# Altium schematic symbol library 通讯系列IC.SchLib: 22 symbols
Pins are listed as number, name and electrical type; pins without a type are passive.

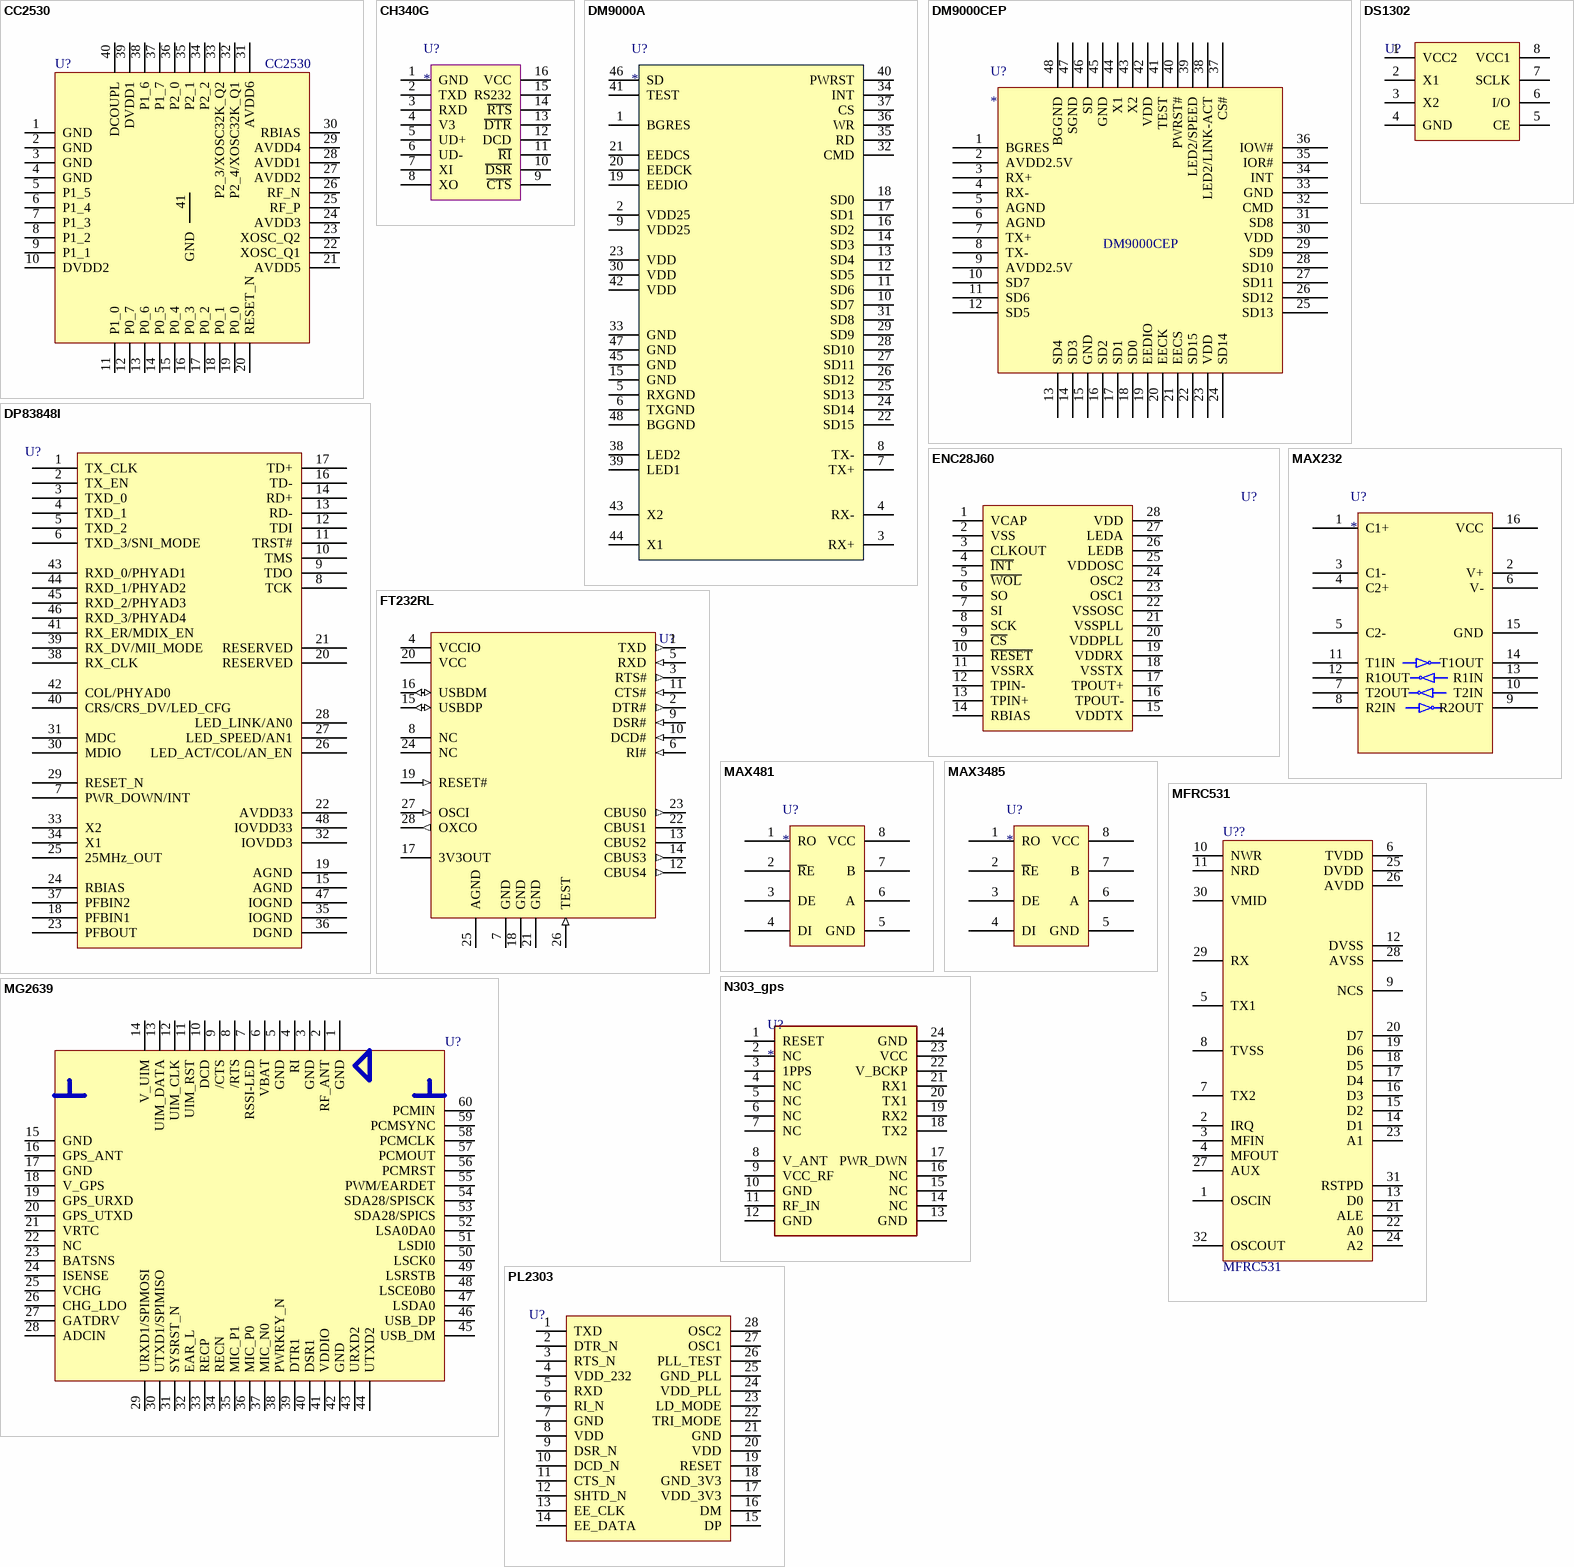
[diagram p0: symbols CC2530 to PL2303]

## CC2530
designator U?
footprint QFN40 6X6
pins: 1 GND, 2 GND, 3 GND, 4 GND, 5 P1_5, 6 P1_4, 7 P1_3, 8 P1_2, 9 P1_1, 10 DVDD2, 11 P1_0, 12 P0_7, 13 P0_6, 14 P0_5, 15 P0_4, 16 P0_3, 17 P0_2, 18 P0_1, 19 P0_0, 20 RESET_N, 21 AVDD5, 22 XOSC_Q1, 23 XOSC_Q2, 24 AVDD3, 25 RF_P, 26 RF_N, 27 AVDD2, 28 AVDD1, 29 AVDD4, 30 RBIAS, 31 AVDD6, 32 P2_4/XOSC32K_Q1, 33 P2_3/XOSC32K_Q2, 34 P2_2, 35 P2_1, 36 P2_0, 37 P1_7, 38 P1_6, 39 DVDD1, 40 DCOUPL, 41 GND

## CH340G
designator U?
footprint SOP16
pins: 1 GND, 2 TXD, 3 RXD, 4 V3, 5 UD+, 6 UD-, 7 XI, 8 XO, 9 ~{CTS}, 10 ~{DSR}, 11 ~{RI}, 12 DCD, 13 ~{DTR}, 14 ~{RTS}, 15 RS232, 16 VCC

## DM9000A
designator U?
footprint LQFP48
pins: 1 BGRES, 2 VDD25, 3 RX+, 4 RX-, 5 RXGND, 6 TXGND, 7 TX+, 8 TX-, 9 VDD25, 10 SD7, 11 SD6, 12 SD5, 13 SD4, 14 SD3, 15 GND, 16 SD2, 17 SD1, 18 SD0, 19 EEDIO, 20 EEDCK, 21 EEDCS, 22 SD15, 23 VDD, 24 SD14, 25 SD13, 26 SD12, 27 SD11, 28 SD10, 29 SD9, 30 VDD, 31 SD8, 32 CMD, 33 GND, 34 INT, 35 RD, 36 WR, 37 CS, 38 LED2, 39 LED1, 40 PWRST, 41 TEST, 42 VDD, 43 X2, 44 X1, 45 GND, 46 SD, 47 GND, 48 BGGND

## DM9000CEP
designator U?
footprint LQFP48
pins: 1 BGRES, 2 AVDD2.5V, 3 RX+, 4 RX-, 5 AGND, 6 AGND, 7 TX+, 8 TX-, 9 AVDD2.5V, 10 SD7, 11 SD6, 12 SD5, 13 SD4, 14 SD3, 15 GND, 16 SD2, 17 SD1, 18 SD0, 19 EEDIO, 20 EECK, 21 EECS, 22 SD15, 23 VDD, 24 SD14, 25 SD13, 26 SD12, 27 SD11, 28 SD10, 29 SD9, 30 VDD, 31 SD8, 32 CMD, 33 GND, 34 INT, 35 IOR#, 36 IOW#, 37 CS#, 38 LED2/LINK-ACT, 39 LED2/SPEED, 40 PWRST#, 41 TEST, 42 VDD, 43 X2, 44 X1, 45 GND, 46 SD, 47 SGND, 48 BGGND

## DP83848I
designator U?
网络芯片
footprint LQFP48
pins: 1 TX_CLK, 2 TX_EN, 3 TXD_0, 4 TXD_1, 5 TXD_2, 6 TXD_3/SNI_MODE, 7 PWR_DOWN/INT, 8 TCK, 9 TDO, 10 TMS, 11 TRST#, 12 TDI, 13 RD-, 14 RD+, 15 AGND, 16 TD-, 17 TD+, 18 PFBIN1, 19 AGND, 20 RESERVED, 21 RESERVED, 22 AVDD33, 23 PFBOUT, 24 RBIAS, 25 25MHz_OUT, 26 LED_ACT/COL/AN_EN, 27 LED_SPEED/AN1, 28 LED_LINK/AN0, 29 RESET_N, 30 MDIO, 31 MDC, 32 IOVDD3, 33 X2, 34 X1, 35 IOGND, 36 DGND, 37 PFBIN2, 38 RX_CLK, 39 RX_DV/MII_MODE, 40 CRS/CRS_DV/LED_CFG, 41 RX_ER/MDIX_EN, 42 COL/PHYAD0, 43 RXD_0/PHYAD1, 44 RXD_1/PHYAD2, 45 RXD_2/PHYAD3, 46 RXD_3/PHYAD4, 47 IOGND, 48 IOVDD33

## DS1302
designator U?
footprint DIP8
footprint DIP8_SS (DIP8-SMD Socket)
footprint SOP8
pins: 1 VCC2, 2 X1, 3 X2, 4 GND, 5 CE, 6 I/O, 7 SCLK, 8 VCC1

## ENC28J60
designator U?
以太网控制芯片
footprint QFN32 5x5
pins: 1 VCAP, 2 VSS, 3 CLKOUT, 4 ~{INT}, 5 ~{WOL}, 6 SO, 7 SI, 8 SCK, 9 ~{CS}, 10 ~{RESET}, 11 VSSRX, 12 TPIN-, 13 TPIN+, 14 RBIAS, 15 VDDTX, 16 TPOUT-, 17 TPOUT+, 18 VSSTX, 19 VDDRX, 20 VDDPLL, 21 VSSPLL, 22 VSSOSC, 23 OSC1, 24 OSC2, 25 VDDOSC, 26 LEDB, 27 LEDA, 28 VDD

## FT232RL
designator U?
footprint QFN32 5x5
footprint SSOP28
pins: 1 TXD (out), 2 DTR# (out), 3 RTS# (out), 4 VCCIO (power), 5 RXD (in), 6 RI# (in), 7 GND (power), 8 NC, 9 DSR# (in), 10 DCD# (in), 11 CTS# (in), 12 CBUS4 (out), 13 CBUS2 (oc), 14 CBUS3 (out), 15 USBDP (io), 16 USBDM (io), 17 3V3OUT (power), 18 GND (power), 19 RESET# (in), 20 VCC (power), 21 GND (power), 22 CBUS1 (oc), 23 CBUS0 (out), 24 NC, 25 AGND (power), 26 TEST (in), 27 OSCI (in), 28 OXCO (out)

## MAX232
designator U?
footprint SOP16
footprint DIP16
footprint DIP16_SS (DIP16-SMD Socket)
pins: 1 C1+, 2 V+, 3 C1-, 4 C2+, 5 C2-, 6 V-, 7 T2OUT, 8 R2IN, 9 R2OUT, 10 T2IN, 11 T1IN, 12 R1OUT, 13 R1IN, 14 T1OUT, 15 GND, 16 VCC

## MAX481
designator U?
footprint DIP8
footprint DIP8_SS (DIP8-SMD Socket)
footprint SOP8
pins: 1 RO, 2 ~{R}E, 3 DE, 4 DI, 5 GND, 6 A, 7 B, 8 VCC

## MAX3485
designator U?
footprint DIP8
footprint DIP8_SS (DIP8-SMD Socket)
footprint SOP8
pins: 1 RO, 2 ~{R}E, 3 DE, 4 DI, 5 GND, 6 A, 7 B, 8 VCC

## MFRC531
designator U??
footprint QFN32 5x5
pins: 1 OSCIN, 2 IRQ, 3 MFIN, 4 MFOUT, 5 TX1, 6 TVDD, 7 TX2, 8 TVSS, 9 NCS, 10 NWR, 11 NRD, 12 DVSS, 13 D0, 14 D1, 15 D2, 16 D3, 17 D4, 18 D5, 19 D6, 20 D7, 21 ALE, 22 A0, 23 A1, 24 A2, 25 DVDD, 26 AVDD, 27 AUX, 28 AVSS, 29 RX, 30 VMID, 31 RSTPD, 32 OSCOUT

## MG2639
designator U?
footprint MG2639
pins: 1 GND, 2 RF_ANT, 3 GND, 4 RI, 5 GND, 6 VBAT, 7 RSSI-LED, 8 /RTS, 9 /CTS, 10 DCD, 11 UIM_RST, 12 UIM_CLK, 13 UIM_DATA, 14 V_UIM, 15 GND, 16 GPS_ANT, 17 GND, 18 V_GPS, 19 GPS_URXD, 20 GPS_UTXD, 21 VRTC, 22 NC, 23 BATSNS, 24 ISENSE, 25 VCHG, 26 CHG_LDO, 27 GATDRV, 28 ADCIN, 29 URXD1/SPIMOSI, 30 UTXD1/SPIMISO, 31 SYSRST_N, 32 EAR_L, 33 RECP, 34 RECN, 35 MIC_P1, 36 MIC_P0, 37 MIC_N0, 38 PWRKEY_N, 39 DTR1, 40 DSR1, 41 VDDIO, 42 GND, 43 URXD2, 44 UTXD2, 45 USB_DM, 46 USB_DP, 47 LSDA0, 48 LSCE0B0, 49 LSRSTB, 50 LSCK0, 51 LSDI0, 52 LSA0DA0, 53 SDA28/SPICS, 54 SDA28/SPISCK, 55 PWM/EARDET, 56 PCMRST, 57 PCMOUT, 58 PCMCLK, 59 PCMSYNC, 60 PCMIN

## N303_gps
designator U?
footprint N303_gps
pins: 1 RESET, 2 NC, 3 1PPS, 4 NC, 5 NC, 6 NC, 7 NC, 8 V_ANT, 9 VCC_RF, 10 GND, 11 RF_IN, 12 GND, 13 GND, 14 NC, 15 NC, 16 NC, 17 PWR_DWN, 18 TX2, 19 RX2, 20 TX1, 21 RX1, 22 V_BCKP, 23 VCC, 24 GND

## PL2303
designator U?
footprint SOP28
pins: 1 TXD, 2 DTR_N, 3 RTS_N, 4 VDD_232, 5 RXD, 6 RI_N, 7 GND, 8 VDD, 9 DSR_N, 10 DCD_N, 11 CTS_N, 12 SHTD_N, 13 EE_CLK, 14 EE_DATA, 15 DP, 16 DM, 17 VDD_3V3, 18 GND_3V3, 19 RESET, 20 VDD, 21 GND, 22 TRI_MODE, 23 LD_MODE, 24 VDD_PLL, 25 GND_PLL, 26 PLL_TEST, 27 OSC1, 28 OSC2

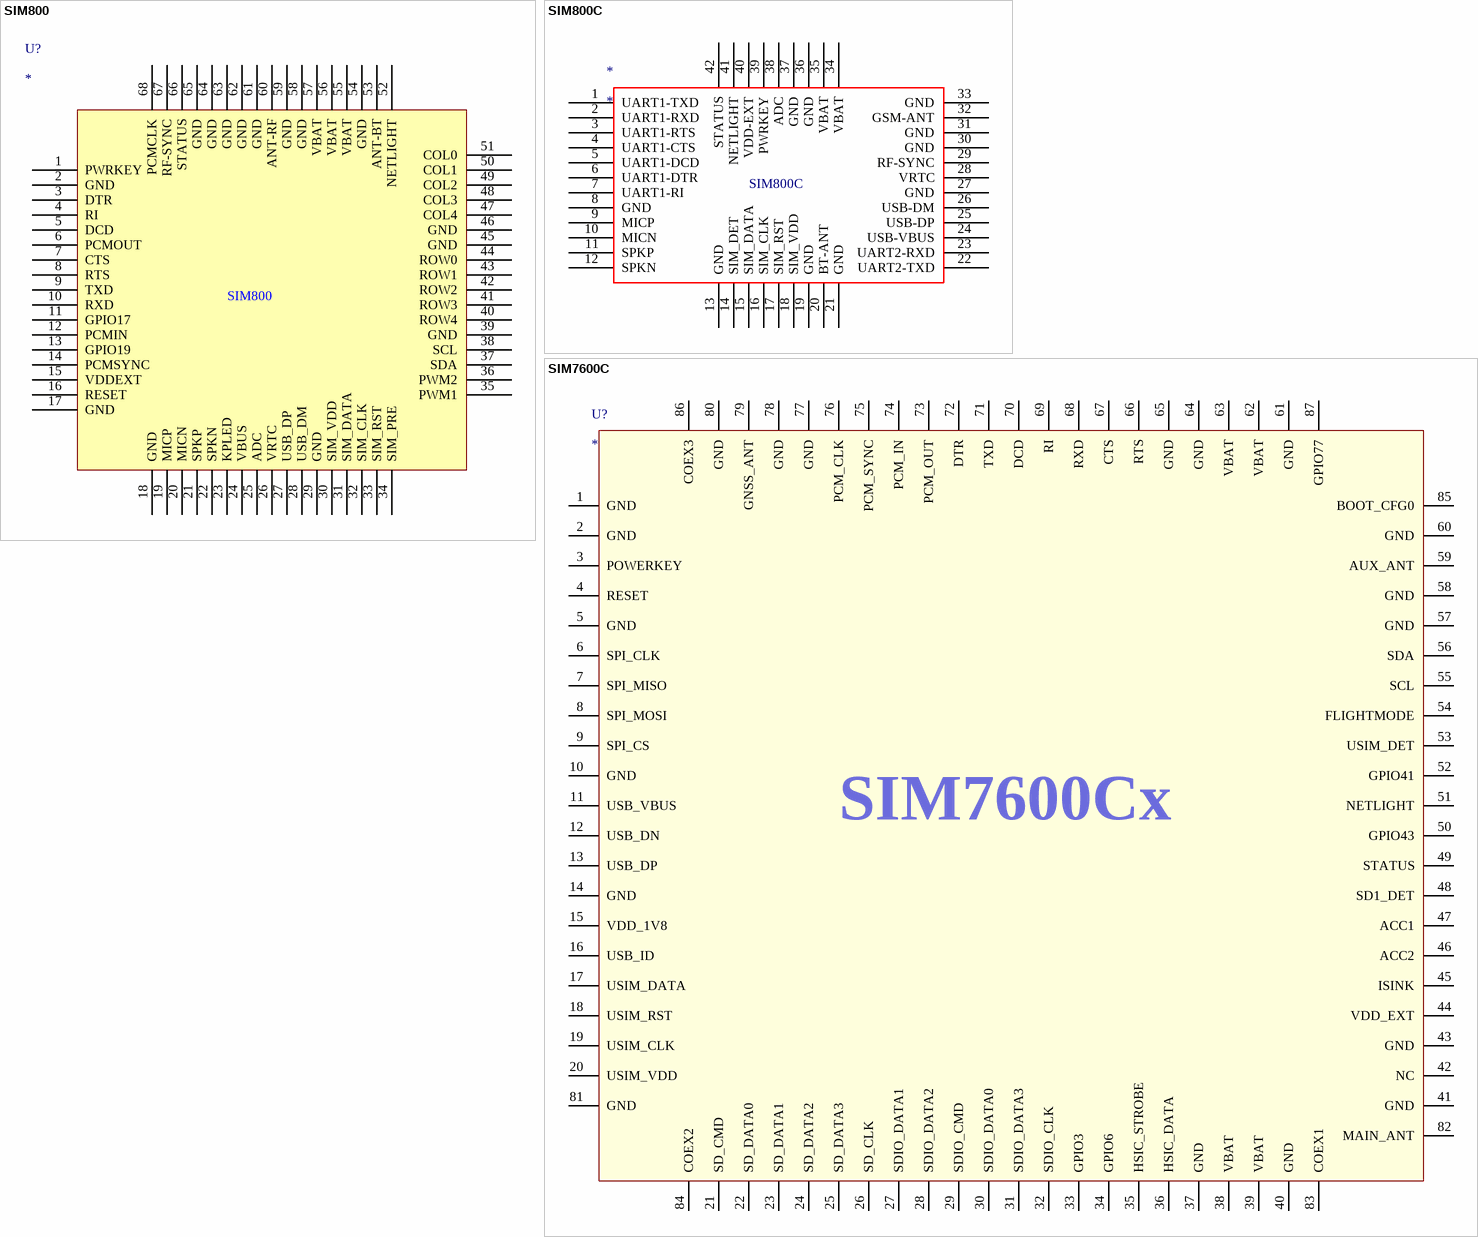
[diagram p1: symbols SIM800 to SIM7600C]

## SIM800
designator U?
footprint SIM800
pins: 1 PWRKEY, 2 GND, 3 DTR, 4 RI, 5 DCD, 6 PCMOUT, 7 CTS, 8 RTS, 9 TXD, 10 RXD, 11 GPIO17, 12 PCMIN, 13 GPIO19, 14 PCMSYNC, 15 VDDEXT, 16 RESET, 17 GND, 18 GND, 19 MICP, 20 MICN, 21 SPKP, 22 SPKN, 23 KPLED, 24 VBUS, 25 ADC, 26 VRTC, 27 USB_DP, 28 USB_DM, 29 GND, 30 SIM_VDD, 31 SIM_DATA, 32 SIM_CLK, 33 SIM_RST, 34 SIM_PRE, 35 PWM1, 36 PWM2, 37 SDA, 38 SCL, 39 GND, 40 ROW4, 41 ROW3, 42 ROW2, 43 ROW1, 44 ROW0, 45 GND, 46 GND, 47 COL4, 48 COL3, 49 COL2, 50 COL1, 51 COL0, 52 NETLIGHT, 53 ANT-BT, 54 GND, 55 VBAT, 56 VBAT, 57 VBAT, 58 GND, 59 GND, 60 ANT-RF, 61 GND, 62 GND, 63 GND, 64 GND, 65 GND, 66 STATUS, 67 RF-SYNC, 68 PCMCLK

## SIM800C
designator *
footprint SIM800C
pins: 1 UART1-TXD, 2 UART1-RXD, 3 UART1-RTS, 4 UART1-CTS, 5 UART1-DCD, 6 UART1-DTR, 7 UART1-RI, 8 GND, 9 MICP, 10 MICN, 11 SPKP, 12 SPKN, 13 GND, 14 SIM_DET, 15 SIM_DATA, 16 SIM_CLK, 17 SIM_RST, 18 SIM_VDD, 19 GND, 20 BT-ANT, 21 GND, 22 UART2-TXD, 23 UART2-RXD, 24 USB-VBUS, 25 USB-DP, 26 USB-DM, 27 GND, 28 VRTC, 29 RF-SYNC, 30 GND, 31 GND, 32 GSM-ANT, 33 GND, 34 VBAT, 35 VBAT, 36 GND, 37 GND, 38 ADC, 39 PWRKEY, 40 VDD-EXT, 41 NETLIGHT, 42 STATUS

## SIM7600C
designator U?
footprint SIM7600Cx
pins: 1 GND, 2 GND, 3 POWERKEY, 4 RESET, 5 GND, 6 SPI_CLK, 7 SPI_MISO, 8 SPI_MOSI, 9 SPI_CS, 10 GND, 11 USB_VBUS, 12 USB_DN, 13 USB_DP, 14 GND, 15 VDD_1V8, 16 USB_ID, 17 USIM_DATA, 18 USIM_RST, 19 USIM_CLK, 20 USIM_VDD, 21 SD_CMD, 22 SD_DATA0, 23 SD_DATA1, 24 SD_DATA2, 25 SD_DATA3, 26 SD_CLK, 27 SDIO_DATA1, 28 SDIO_DATA2, 29 SDIO_CMD, 30 SDIO_DATA0, 31 SDIO_DATA3, 32 SDIO_CLK, 33 GPIO3, 34 GPIO6, 35 HSIC_STROBE, 36 HSIC_DATA, 37 GND, 38 VBAT, 39 VBAT, 40 GND, 41 GND, 42 NC, 43 GND, 44 VDD_EXT, 45 ISINK, 46 ACC2, 47 ACC1, 48 SD1_DET, 49 STATUS, 50 GPIO43, 51 NETLIGHT, 52 GPIO41, 53 USIM_DET, 54 FLIGHTMODE, 55 SCL, 56 SDA, 57 GND, 58 GND, 59 AUX_ANT, 60 GND, 61 GND, 62 VBAT, 63 VBAT, 64 GND, 65 GND, 66 RTS, 67 CTS, 68 RXD, 69 RI, 70 DCD, 71 TXD, 72 DTR, 73 PCM_OUT, 74 PCM_IN, 75 PCM_SYNC, 76 PCM_CLK, 77 GND, 78 GND, 79 GNSS_ANT, 80 GND, 81 GND, 82 MAIN_ANT, 83 COEX1, 84 COEX2, 85 BOOT_CFG0, 86 COEX3, 87 GPIO77
text: SIM7600Cx

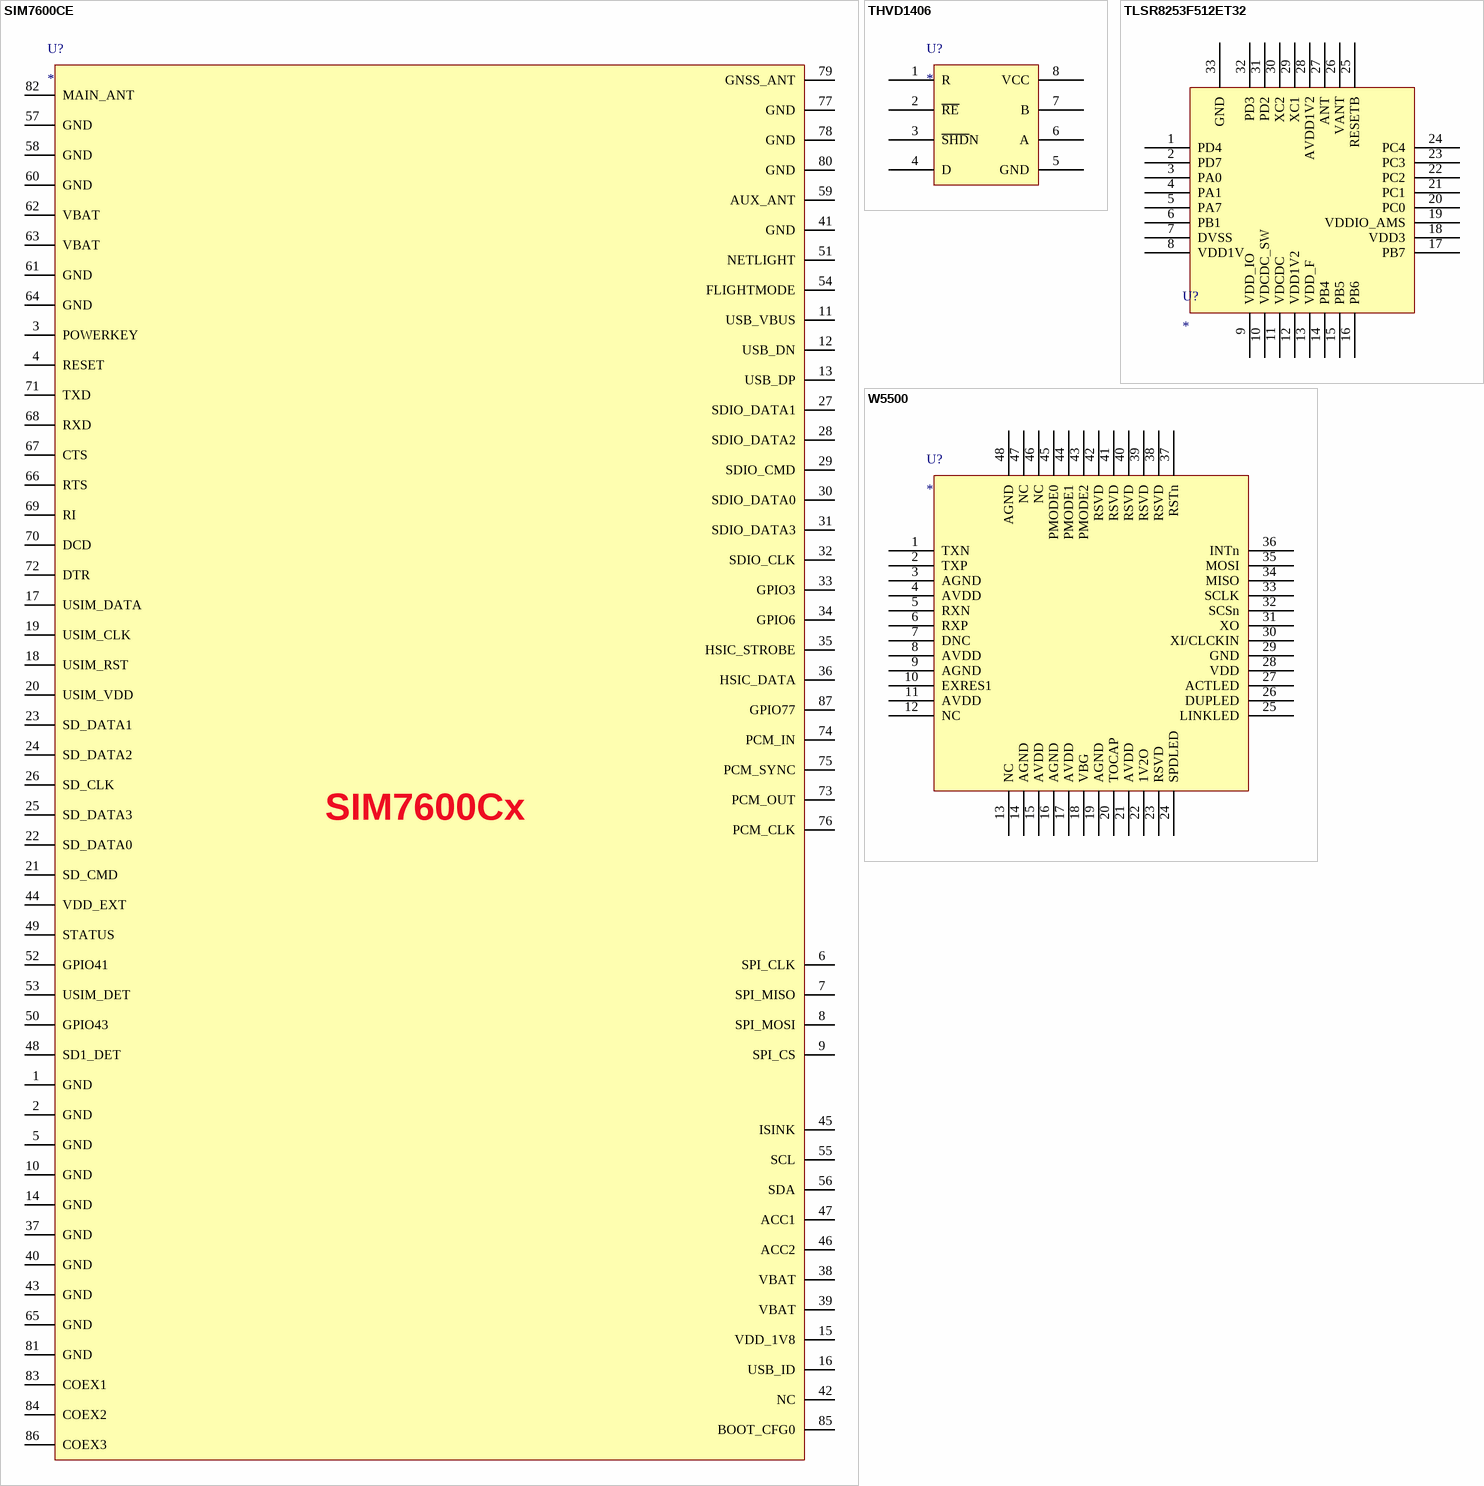
[diagram p2: symbols SIM7600CE to W5500]

## SIM7600CE
designator U?
footprint SIM7600Cx
pins: 1 GND, 2 GND, 3 POWERKEY, 4 RESET, 5 GND, 6 SPI_CLK, 7 SPI_MISO, 8 SPI_MOSI, 9 SPI_CS, 10 GND, 11 USB_VBUS, 12 USB_DN, 13 USB_DP, 14 GND, 15 VDD_1V8, 16 USB_ID, 17 USIM_DATA, 18 USIM_RST, 19 USIM_CLK, 20 USIM_VDD, 21 SD_CMD, 22 SD_DATA0, 23 SD_DATA1, 24 SD_DATA2, 25 SD_DATA3, 26 SD_CLK, 27 SDIO_DATA1, 28 SDIO_DATA2, 29 SDIO_CMD, 30 SDIO_DATA0, 31 SDIO_DATA3, 32 SDIO_CLK, 33 GPIO3, 34 GPIO6, 35 HSIC_STROBE, 36 HSIC_DATA, 37 GND, 38 VBAT, 39 VBAT, 40 GND, 41 GND, 42 NC, 43 GND, 44 VDD_EXT, 45 ISINK, 46 ACC2, 47 ACC1, 48 SD1_DET, 49 STATUS, 50 GPIO43, 51 NETLIGHT, 52 GPIO41, 53 USIM_DET, 54 FLIGHTMODE, 55 SCL, 56 SDA, 57 GND, 58 GND, 59 AUX_ANT, 60 GND, 61 GND, 62 VBAT, 63 VBAT, 64 GND, 65 GND, 66 RTS, 67 CTS, 68 RXD, 69 RI, 70 DCD, 71 TXD, 72 DTR, 73 PCM_OUT, 74 PCM_IN, 75 PCM_SYNC, 76 PCM_CLK, 77 GND, 78 GND, 79 GNSS_ANT, 80 GND, 81 GND, 82 MAIN_ANT, 83 COEX1, 84 COEX2, 85 BOOT_CFG0, 86 COEX3, 87 GPIO77
text: SIM7600Cx

## THVD1406
designator U?
footprint DIP8
footprint DIP8_SS (DIP8-SMD Socket)
footprint SOP8
pins: 1 R, 2 ~{RE}, 3 ~{SHD}N, 4 D, 5 GND, 6 A, 7 B, 8 VCC

## TLSR8253F512ET32
designator U?
footprint QFN32 5x5
pins: 1 PD4 (oc), 2 PD7 (oc), 3 PA0 (oc), 4 PA1 (oc), 5 PA7 (oc), 6 PB1 (oc), 7 DVSS (oc), 8 VDD1V (oc), 9 VDD_IO (oc), 10 VDCDC_SW (oc), 11 VDCDC (oc), 12 VDD1V2 (oc), 13 VDD_F (oc), 14 PB4 (oc), 15 PB5 (oc), 16 PB6 (oc), 17 PB7 (oc), 18 VDD3 (oc), 19 VDDIO_AMS (oc), 20 PC0 (oc), 21 PC1 (oc), 22 PC2 (oc), 23 PC3 (oc), 24 PC4 (oc), 25 RESETB (oc), 26 VANT (oc), 27 ANT (oc), 28 AVDD1V2 (oc), 29 XC1 (oc), 30 XC2 (oc), 31 PD2 (oc), 32 PD3 (oc), 33 GND (oc)

## W5500
designator U?
网络芯片
footprint LQFP48
pins: 1 TXN, 2 TXP, 3 AGND, 4 AVDD, 5 RXN, 6 RXP, 7 DNC, 8 AVDD, 9 AGND, 10 EXRES1, 11 AVDD, 12 NC, 13 NC, 14 AGND, 15 AVDD, 16 AGND, 17 AVDD, 18 VBG, 19 AGND, 20 TOCAP, 21 AVDD, 22 1V2O, 23 RSVD, 24 SPDLED, 25 LINKLED, 26 DUPLED, 27 ACTLED, 28 VDD, 29 GND, 30 XI/CLCKIN, 31 XO, 32 SCSn, 33 SCLK, 34 MISO, 35 MOSI, 36 INTn, 37 RSTn, 38 RSVD, 39 RSVD, 40 RSVD, 41 RSVD, 42 RSVD, 43 PMODE2, 44 PMODE1, 45 PMODE0, 46 NC, 47 NC, 48 AGND